# Altium footprint library KeyBoxPCBLIB.PcbLib: 28 footprints (part 2 of 2)
Each footprint in its own frame and in the unit in brackets; x right, y up, seen from the top. Pads: shape width x height; smd on the part's side, far side on the other; paste and mask are expansions set on the pad; w line width, h text height; cw(c..) or ccw(c..) is an arc to the next point about the centre after c.
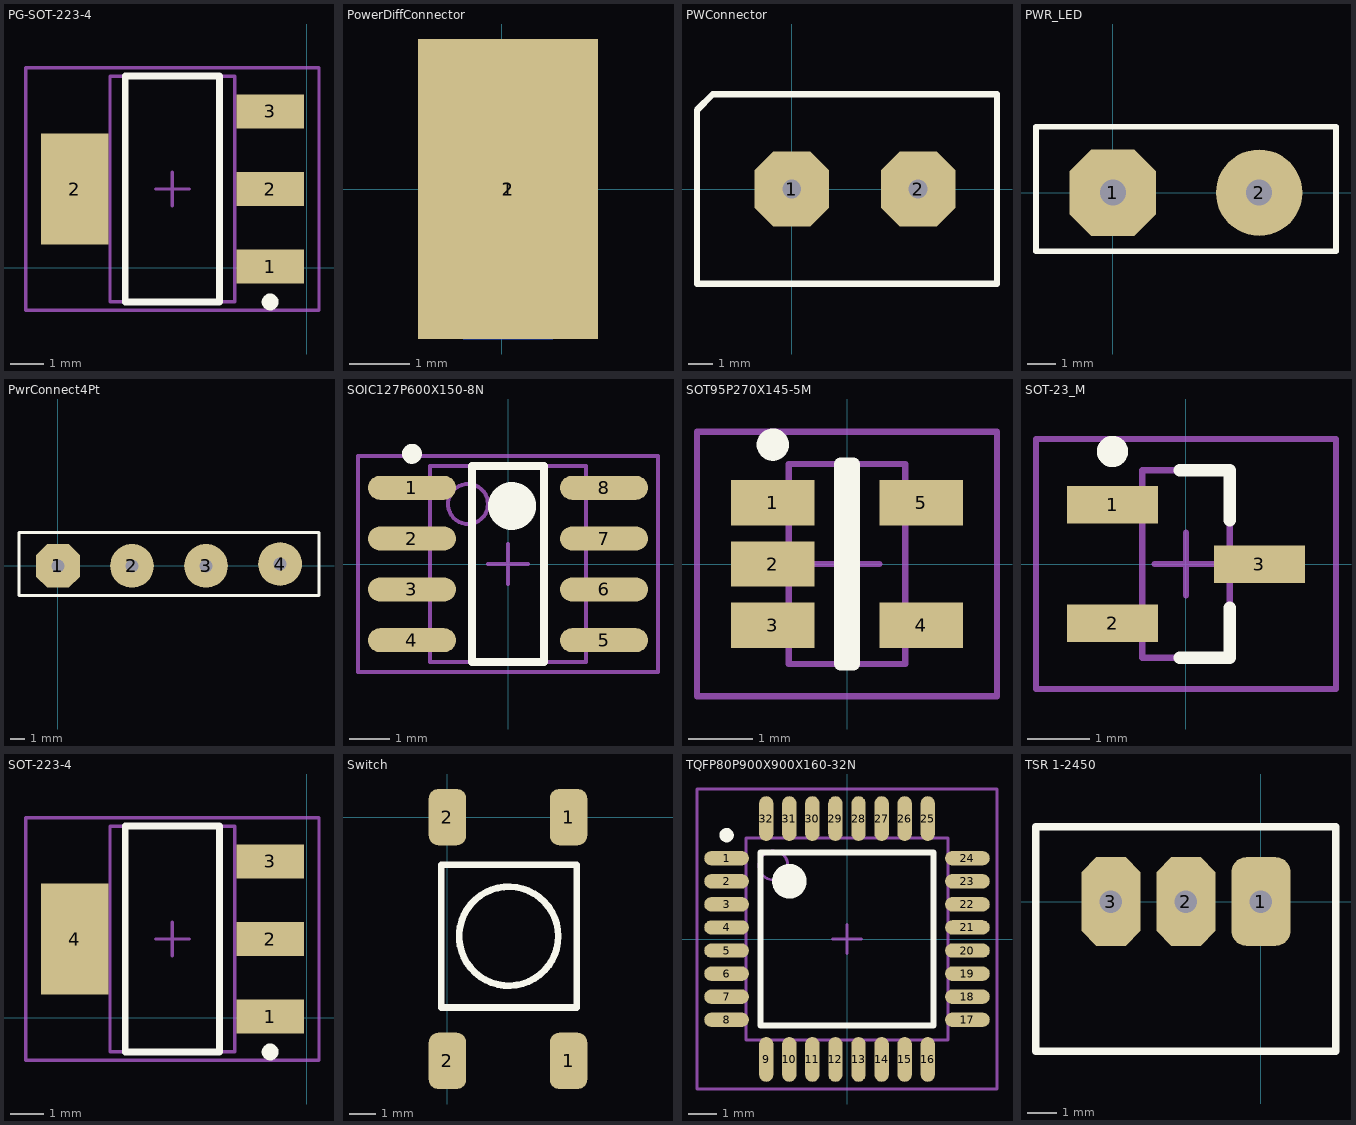
[diagram p1: the footprints below, top view; thin cyan lines are the x and y axes]

## PG-SOT-223-4 [mm]
pads (4):
  rect 2x1 smd: 1(-1.088,0.037) 2(-1.088,2.337) 3(-1.088,4.637)
  rect 2x3.3 smd: 2(-6.888,2.337)
Top Overlay:
  circle w0.25: c-1.088,-1.013 r0.125
  lines w0.2: -5.388,-1.013 -2.588,-1.013 -2.588,5.687 -5.388,5.687 -5.388,-1.013
Mechanical 13:
  lines w0.1: -5.838,-1.013 -2.138,-1.013 -2.138,5.687 -5.838,5.687 -5.838,-1.013
Mechanical 15:
  lines w0.1: -4.488,2.337 -3.488,2.337 ; -3.988,1.837 -3.988,2.837 ; -8.338,-1.263 0.362,-1.263 0.362,5.937 -8.338,5.937 -8.338,-1.263
3D body: height 1.7, standoff 0, extent -5.838,-1.013 -2.138,5.687

## PowerDiffConnector [mm]
pads (2):
  rect 3x5 smd: 1(0.102,0)
  rrect50% 3x5 smd far side: 2(0.102,0)

## PWConnector [mm]
pads (2):
  oct 3x3 hole 0.762: 1(0,0) 2(5.08,0)
Top Overlay:
  lines w0.254: -3.81,-3.81 -3.81,3.175 -3.175,3.81 8.255,3.81 8.255,-3.81 -3.81,-3.81

## PWR_LED [mm]
pads (2):
  oct 3x3 hole 0.9: 1(0,0)
  round 3 hole 0.9: 2(5.08,0)
Top Overlay:
  lines w0.2: -2.667,-2.032 7.747,-2.032 7.747,2.286 -2.667,2.286 -2.667,-2.032

## PwrConnect4Pt [mm]
pads (4):
  oct 3x3 hole 0.9: 1(0,0)
  round 3 hole 0.9: 2(5.08,0) 3(10.16,0) 4(15.24,0.127)
Top Overlay:
  lines w0.2: -2.667,-2.032 -2.667,2.286 17.907,2.286 17.907,-2.032 -2.667,-2.032

## SOIC127P600X150-8N [mm] "SOIC, 8-Leads, Body 4,9x3,9mm (max), Pitch 1,27mm, IPC Medium Density"
height 1.5
pads (8):
  oval 2.2x0.6 smd: 1(-2.4,1.905) 2(-2.4,0.635) 3(-2.4,-0.635) 4(-2.4,-1.905) 5(2.4,-1.905) 6(2.4,-0.635) 7(2.4,0.635) 8(2.4,1.905)
Top Overlay:
  circle w0.6: c0.1,1.45 r0.3
  circle w0.25: c-2.4,2.755 r0.125
  lines w0.2: -0.9,-2.45 0.9,-2.45 0.9,2.45 -0.9,2.45 -0.9,-2.45
Mechanical 13:
  circle w0.1: c-1,1.5 r0.5
  lines w0.1: -1.95,-2.45 1.95,-2.45 1.95,2.45 -1.95,2.45 -1.95,-2.45
Mechanical 15:
  lines w0.1: -0.5,0 0.5,0 ; 0,-0.5 0,0.5 ; -3.75,-2.7 3.75,-2.7 3.75,2.7 -3.75,2.7 -3.75,-2.7
3D body: height 1.5, standoff 0.1, extent -1.95,-2.45 1.95,2.45

## SOT95P270X145-5M [mm] "SOT23, 5-Leads, Body 3,1x3,2mm (max), Pitch 0,95mm, IPC Low Density"
height 1.45
pads (5):
  rect 1.3x0.7 smd: 1(-1.15,0.95) 2(-1.15,0) 3(-1.15,-0.95) 4(1.15,-0.95) 5(1.15,0.95)
Top Overlay:
  circle w0.25: c-1.15,1.85 r0.125
  lines w0.2: -0.1,-1.55 0.1,-1.55 0.1,1.55 -0.1,1.55 -0.1,-1.55
Mechanical 13:
  lines w0.1: -0.9,-1.55 -0.9,1.55 0.9,1.55 0.9,-1.55 -0.9,-1.55
Mechanical 15:
  lines w0.1: -0.5,0 0.5,0 ; 0,-0.5 0,0.5 ; -2.325,-2.05 -2.325,2.05 2.325,2.05 2.325,-2.05 -2.325,-2.05
3D body: height 1.45, standoff 0, extent -0.9,-1.55 0.9,1.55

## SOT-23_M [mm] "SOT23, 3-Leads, Body 2.9x1.3mm, Pitch 0.95mm, Lead Span 2.5mm, IPC Low Density"
height 1.1
pads (3):
  rect 1.45x0.6 smd: 1(-1.175,0.95) 2(-1.175,-0.95) 3(1.175,0)
Top Overlay:
  circle w0.25: c-1.175,1.8 r0.125
  lines w0.2: -0.1,-1.5 0.7,-1.5 0.7,-0.7 ; -0.1,1.5 0.7,1.5 0.7,0.7
Mechanical 13:
  lines w0.1: -0.7,-1.5 -0.7,1.5 0.7,1.5 0.7,-1.5 -0.7,-1.5
Mechanical 15:
  lines w0.1: -0.5,0 0.5,0 ; 0,-0.5 0,0.5 ; -2.4,-2 -2.4,2 2.4,2 2.4,-2 -2.4,-2
3D body: height 1.1, standoff 0, extent -0.7,-1.5 0.7,1.5

## SOT-223-4 [mm]
pads (4):
  rect 2x1 smd: 1(-1.088,0.037) 2(-1.088,2.337) 3(-1.088,4.637)
  rect 2x3.3 smd: 4(-6.888,2.337)
Top Overlay:
  circle w0.25: c-1.088,-1.013 r0.125
  lines w0.2: -5.388,-1.013 -5.388,5.687 -2.588,5.687 -2.588,-1.013 -5.388,-1.013
Mechanical 13:
  lines w0.1: -5.838,-1.013 -5.838,5.687 -2.138,5.687 -2.138,-1.013 -5.838,-1.013
Mechanical 15:
  lines w0.1: -4.488,2.337 -3.488,2.337 ; -3.988,1.837 -3.988,2.837 ; -8.338,-1.263 -8.338,5.937 0.362,5.937 0.362,-1.263 -8.338,-1.263
3D body: height 1.7, standoff 0, extent -5.838,-1.013 -2.138,5.687

## Switch [mm]
pads (4):
  rrect50% 1.4x2.1 smd: 1(4.52,-9.1) 1(4.52,0) 2(0,-9.1) 2(0,0)
Top Overlay:
  circle w0.254: c2.286,-4.445 r1.849
  lines w0.254: -0.229,-7.112 -0.229,-1.778 4.826,-1.778 4.826,-7.112 -0.229,-7.112

## TQFP80P900X900X160-32N [mm] "TQFP, 32-Leads, Body 9,0x9,0mm (max), Pitch 0,80mm, IPC Medium Density"
height 1.6
pads (32):
  oval 1.55x0.5 smd: 1(-4.175,2.8) 2(-4.175,2) 3(-4.175,1.2) 4(-4.175,0.4) 5(-4.175,-0.4) 6(-4.175,-1.2) 7(-4.175,-2) 8(-4.175,-2.8) 17(4.175,-2.8) 18(4.175,-2) 19(4.175,-1.2) 20(4.175,-0.4) 21(4.175,0.4) 22(4.175,1.2) 23(4.175,2) 24(4.175,2.8)
  oval 0.5x1.55 smd: 9(-2.8,-4.175) 10(-2,-4.175) 11(-1.2,-4.175) 12(-0.4,-4.175) 13(0.4,-4.175) 14(1.2,-4.175) 15(2,-4.175) 16(2.8,-4.175) 25(2.8,4.175) 26(2,4.175) 27(1.2,4.175) 28(0.4,4.175) 29(-0.4,4.175) 30(-1.2,4.175) 31(-2,4.175) 32(-2.8,4.175)
Top Overlay:
  circle w0.25: c-4.175,3.6 r0.125
  circle w0.6: c-2,2 r0.3
  lines w0.2: -3,-3 -3,3 3,3 3,-3 -3,-3
Mechanical 13:
  circle w0.1: c-2.55,2.55 r0.5
  lines w0.1: -3.5,-3.5 -3.5,3.5 3.5,3.5 3.5,-3.5 -3.5,-3.5
Mechanical 15:
  lines w0.1: -0.5,0 0.5,0 ; 0,-0.5 0,0.5 ; -5.2,-5.2 -5.2,5.2 5.2,5.2 5.2,-5.2 -5.2,-5.2
3D body: height 1.6, standoff 0.05, extent -3.5,-3.5 3.5,3.5

## TSR 1-2450 [mm]
pads (3):
  rrect50% 2x3 hole 0.762: 1(0,0)
  oct 2x3 hole 0.762: 2(-2.54,0) 3(-5.08,0)
Top Overlay:
  lines w0.254: -7.62,-5.08 2.54,-5.08 2.54,2.54 -7.62,2.54 -7.62,-5.08